# Altium schematic symbol library first.SchLib: 13 symbols
Pins are listed as number, name and electrical type; pins without a type are passive.

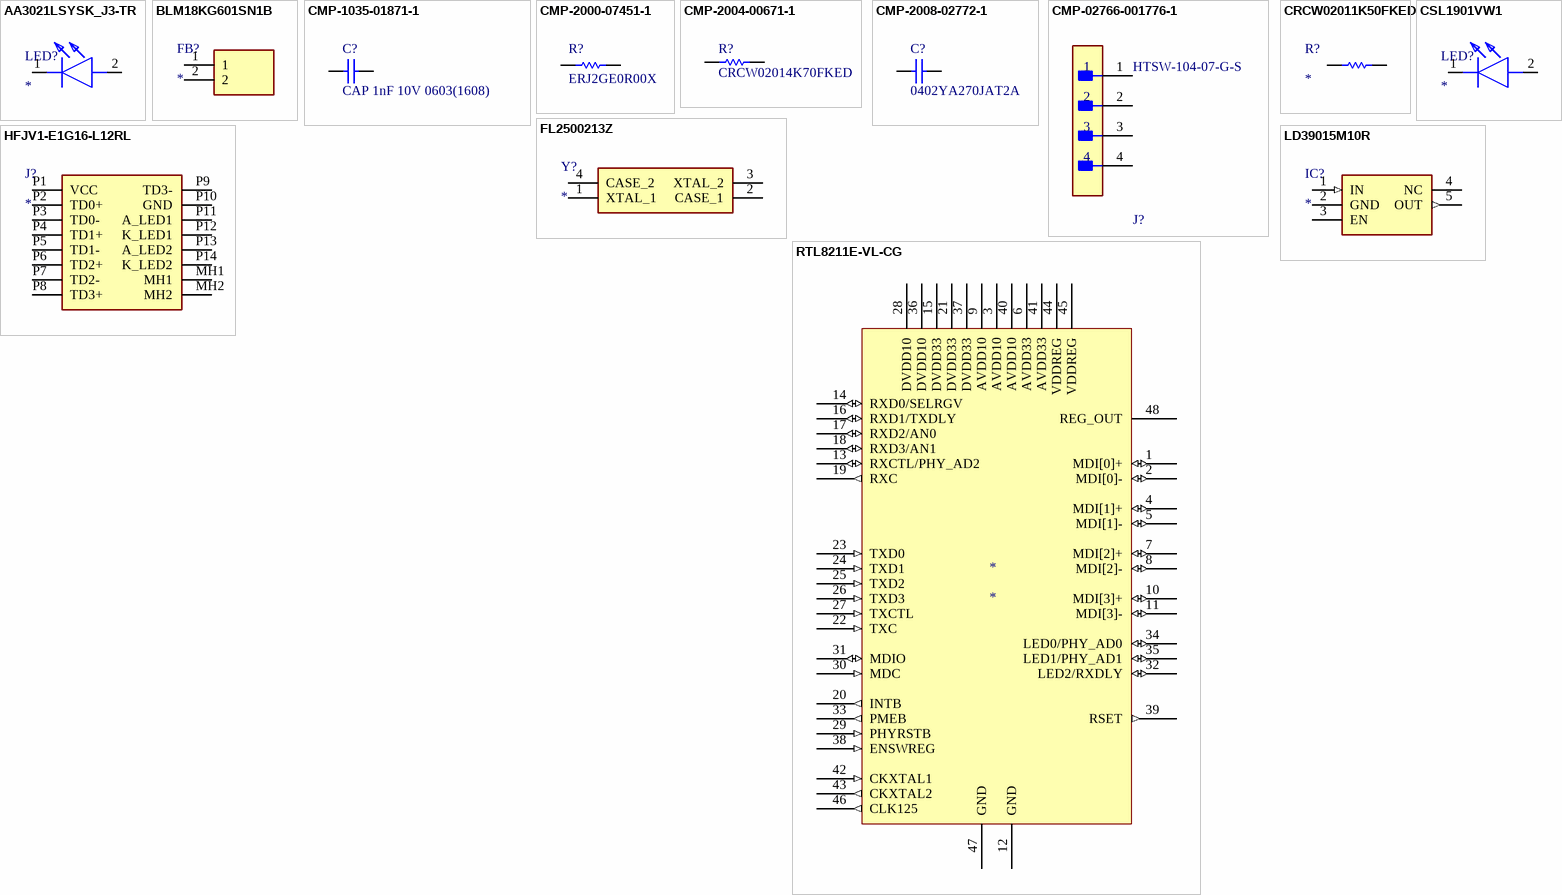
[diagram p0: symbols AA3021LSYSK_J3-TR to RTL8211E-VL-CG]

## AA3021LSYSK_J3-TR
designator LED?
LED; Manufacturer_Name: Kingbright; Manufacturer_Part_Number: AA3021LSYSK/J3-TR; Datasheet Link: https://eagle.componentsearchengine.com/Datasheets/1/AA3021LSYSK_J3-TR.pdf; Height: 1.3mm; Mouser Part Number: 604-AA3021LSYSK/J3TR; Mouser Price/Stock: https://www.mouser.co.uk/ProductDetail/Kingbright/AA3021LSYSK-J3-TR?qs=Oo40KB9lBTmS1V8p5PSO3Q%3D%3D
footprint AA3021LSYSKJ3TR
pins: 1 K, 2 A

## BLM18KG601SN1B
designator FB?
Ferrite Bead; Manufacturer_Name: Murata Electronics; Manufacturer_Part_Number: BLM18KG601SN1B; Datasheet Link: http://www.murata.com/~/media/webrenewal/support/library/catalog/products/emc/emifil/c31e.ashx?la=en-gb; Height: 0.95mm
footprint BLM18EG121SH1D
pins: 1, 2

## CMP-1035-01871-1
designator C?, comment CAP 1nF 10V 0603(1608)
CAP 1nF 10V ±1% 0603 (1608 Metric) Thickness 1mm SMD; Tolerance: Â±1%; Case-Metric: 1608; Case-EIA: 0603; Technology: SMT; Rated Voltage: 10 V; Value: 1nF; Max Thickness: 1 mm
footprint CAPC0603(1608)100_L (Chip Capacitor, Body 1.6x0.8mm, Height 1.0mm, IPC High Density)
pins: 1, 2
1 alternate drawing of the same symbol

## CMP-2000-07451-1
designator R?, comment ERJ2GE0R00X
Chip Resistor, 0 Ohm, 0.1 W, -55 to 155 degC, 0402 (1005 Metric), RoHS, Tape and Reel; Manufacturer: Panasonic; Voltage Rating (DC): 50V; Temperature Coefficient: 600ppm/��C; Max Power Dissipation: 100mW; Resistance: 0mOhm; Tolerance: 5%; Number of Terminations: 2; Mount: SurfaceMount; Height: 0.35mm; Packaging: TapeandReel; Contact Plating: Tin; Manufacturer URL: http://www.panasonic.com/; Composition: ThickFilm; Max Operating Temperature: 155degC; REACH SVHC: NoSVHC; Case/Package: 0402; Package Reference: 402; Depth: 0.5mm; Package Description: 2-Pin Surface Mount Device, Body 1 x 0.5 mm; Datasheet URL: https://industrial.panasonic.com/cdbs/www-data/pdf/RDA0000/AOA0000C301.pdf; RoHSCompliant: True; Case Code (Imperial): 0402; Military Standard: Not; Min Operating Temperature: -55degC; Power Rating: 100mW; Datasheet Version: 03/2015; Length: 1mm; Case Code (Metric): 1005; Termination: SMD/SMT; Mounting Technology: SurfaceMount; Voltage Rating: 50V; Width: 0.02inch; Package Quantity: 1; Lead Free: LeadFree; Radiation Hardening: No
footprint RESC1005X40X25LL05T05 (Chip Resistor, 2-Leads, Body 1.05x0.55mm, IPC High Density)
pins: 1, 2

## CMP-2004-00671-1
designator R?, comment CRCW02014K70FKED
Manufacturer: Vishay Dale; Part Number: CRCW02014K70FKED
footprint RESC0603X28X15LL05T05 (Chip Resistor, 2-Leads, Body 0.60x0.30mm, IPC High Density)
pins: 1, 2
1 alternate drawing of the same symbol

## CMP-2008-02772-1
designator C?, comment 0402YA270JAT2A
Manufacturer: AVX Interconnect / Elco; Part Number: 0402YA270JAT2A
footprint CAPC1005X56X25LL10T15 (Chip Capacitor, 2-Leads, Body 1.00x0.50mm, IPC High Density)
pins: 1, 2
1 alternate drawing of the same symbol

## CMP-02766-001776-1
designator J?, comment HTSW-104-07-G-S
CONN HEADER VERT 4POS 2.54MM; Gender: Male; Number of Contacts: 4; Packaging: Bulk; RoHS Compliant: Yes; Number of Rows: 1; Mount: Through Hole; Contact Material: Bronze; Series: HTSW; Radiation Hardening: No; Pitch: 2.54mm; Reach SVHC Compliant: Yes; Contact Plating: Gold; Termination: Through Hole
footprint FP-HTSW-104-07-G-S-MFG
pins: 1, 2, 3, 4

## CRCW02011K50FKED
designator R?
Resistor; Manufacturer_Name: Vishay; Manufacturer_Part_Number: CRCW02011K50FKED; Datasheet Link: http://www.vishay.com/docs/20035/dcrcwe3.pdf; Height: 0.28mm; Mouser Part Number: 71-CRCW02011K50FKED; Mouser Price/Stock: https://www.mouser.com/Search/Refine.aspx?Keyword=71-CRCW02011K50FKED; Arrow Part Number: CRCW02011K50FKED; Arrow Price/Stock: https://www.arrow.com/en/products/crcw02011k50fked/vishay
footprint RESC0603X28N
pins: 1, 2

## CSL1901VW1
designator LED?
LED; Manufacturer_Name: ROHM Semiconductor; Manufacturer_Part_Number: CSL1901VW1; Datasheet Link: https://fscdn.rohm.com/en/products/databook/datasheet/opto/led/chip_mono/csl1901vw1-e.pdf; Height: 0.65mm; Mouser Part Number: 755-CSL1901VW1; Mouser Price/Stock: https://www.mouser.co.uk/ProductDetail/ROHM-Semiconductor/CSL1901VW1?qs=vvQtp7zwQdNmrXZcE27xEA%3D%3D
footprint LEDC1608X65N
pins: 1 K, 2 A

## FL2500213Z
designator Y?
Crystal or Oscillator; Manufacturer_Name: Diodes Inc.; Manufacturer_Part_Number: FL2500213Z; Datasheet Link: https://www.diodes.com/assets/Datasheets/FL.pdf; Height: 0.78mm; Mouser Part Number: 729-FL2500213Z; Mouser Price/Stock: https://www.mouser.co.uk/ProductDetail/Diodes-Incorporated/FL2500213Z?qs=Rp3RbKSfAt0a9%2FPmeza8Xg%3D%3D; Arrow Part Number: FL2500213Z; Arrow Price/Stock: https://www.arrow.com/en/products/fl2500213z/diodes-incorporated?region=nac
footprint FL2500213Z
pins: 1 XTAL_1, 2 CASE_1, 3 XTAL_2, 4 CASE_2

## HFJV1-E1G16-L12RL
designator J?
Connector; Manufacturer_Name: Halo Electronics; Manufacturer_Part_Number: HFJV1-E1G16-L12RL; Description: Modular Connectors / Ethernet Connectors 1G EXT TEMP Vertical RJ45 w/MAG G/Y LED; Datasheet Link: https://componentsearchengine.com/Datasheets/1/HFJV1-E1G16-L12RL.pdf; Height: 16.51mm; Mouser Part Number: 493-HFJV1-E1G16L12RL; Mouser Price/Stock: https://www.mouser.co.uk/ProductDetail/HALO-Electronics/HFJV1-E1G16-L12RL?qs=cGEy3R83DS%2FPhGzGdiRY4A%3D%3D
footprint HFJV1E1G16L12RL
pins: MH1, MH2, P1 VCC, P2 TD0+, P3 TD0-, P4 TD1+, P5 TD1-, P6 TD2+, P7 TD2-, P8 TD3+, P9 TD3-, P10 GND, P11 A_LED1, P12 K_LED1, P13 A_LED2, P14 K_LED2

## LD39015M10R
designator IC?
Integrated Circuit; Manufacturer_Name: STMicroelectronics; Manufacturer_Part_Number: LD39015M10R; Datasheet Link: http://www.st.com/web/en/resource/technical/document/datasheet/CD00173477.pdf; Height: 1.45mm; Mouser Part Number: 511-LD39015M10R; Mouser Price/Stock: https://www.mouser.co.uk/ProductDetail/STMicroelectronics/LD39015M10R?qs=wsLAKTqgg6iLO1LS4XmvbQ%3D%3D; Arrow Part Number: LD39015M10R; Arrow Price/Stock: https://www.arrow.com/en/products/ld39015m10r/stmicroelectronics
footprint SOT95P280X145-5N
pins: 1 IN (in), 2 GND (power), 3 EN, 4 NC, 5 OUT (out)

## RTL8211E-VL-CG
designator *
GbE PHY with RGMII interface & EEE feature, 1.8V & 1.5V; Manufacturer: Realtek; Manufacturer Part Number: RTL8211E-VL-CG; Supplier: Win Source Electronics; Supplier Part Number: 758353-RTL8211E-VL-CG; RoHS: Yes; Stock: 54900; Pricing: 98=3,06900 (USD); RoHS Compliant: Yes
footprint QFN40P600X600X100-49N
pins: 1 MDI[0]+ (io), 2 MDI[0]- (io), 3 AVDD10, 4 MDI[1]+ (io), 5 MDI[1]- (io), 6 AVDD33, 7 MDI[2]+ (io), 8 MDI[2]- (io), 9 AVDD10, 10 MDI[3]+ (io), 11 MDI[3]- (io), 12 GND, 13 RXCTL/PHY_AD2 (io), 14 RXD0/SELRGV (io), 15 DVDD33, 16 RXD1/TXDLY (io), 17 RXD2/AN0 (io), 18 RXD3/AN1 (io), 19 RXC (out), 20 INTB (out), 21 DVDD33, 22 TXC (in), 23 TXD0 (in), 24 TXD1 (in), 25 TXD2 (in), 26 TXD3 (in), 27 TXCTL (in), 28 DVDD10, 29 PHYRSTB (in), 30 MDC (in), 31 MDIO (io), 32 LED2/RXDLY (io), 33 PMEB (out), 34 LED0/PHY_AD0 (io), 35 LED1/PHY_AD1 (io), 36 DVDD10, 37 DVDD33, 38 ENSWREG (in), 39 RSET (out), 40 AVDD10, 41 AVDD33, 42 CKXTAL1 (in), 43 CKXTAL2 (out), 44 VDDREG, 45 VDDREG, 46 CLK125 (out), 47 GND, 48 REG_OUT